# Altium schematic symbol library Cap_Kemet_C0603C104M5RACAUTO_100nF.SchLib: 1 symbol
Pins are listed as number, name and electrical type; pins without a type are passive.

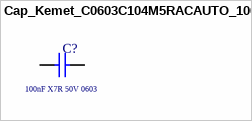
[diagram p0: symbol Cap_Kemet_C0603C104M5RACAUTO_100nF]

## Cap_Kemet_C0603C104M5RACAUTO_100nF
designator C?  Capacitance: 100nF X7R 50V 0603  (hidden comment: Cap_Kemet_C0603C104M5RACAUTO_100nF)
CAP CER 100nF 50V X7R 0603; Supplier 1: Mouser; Supplier Part Number 1: 80-C0603C104M5RAUTO
footprint Cap_Kemet_C0603C104M5RACAUTO_100nF
pins: 1, 2